# Altium footprint library ERJ-P08J220V.PcbLib: 3 footprints
Each footprint in its own frame and in the unit in brackets; x right, y up, seen from the top. Pads: shape width x height; smd on the part's side, far side on the other; paste and mask are expansions set on the pad; w line width, h text height; cw(c..) or ccw(c..) is an arc to the next point about the centre after c.
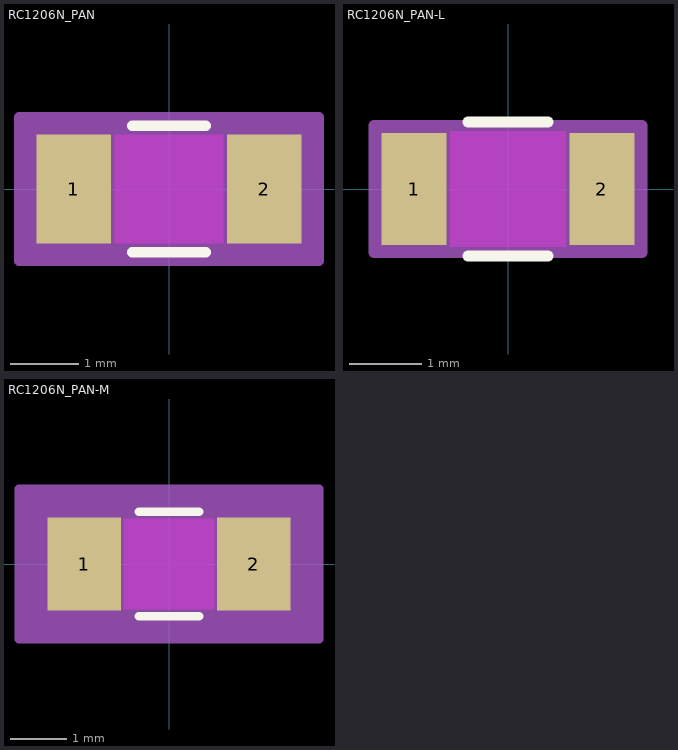
[diagram p0: the footprints below, top view; thin cyan lines are the x and y axes]

## RC1206N_PAN [mm]
pads (2):
  rect 1.1x1.6 smd paste+0 mask+0: 1(-1.4,0) 2(1.4,0)
Top Layer keep-out:
  region: -0.799,-0.749 -0.799,0.749 0.799,0.749 0.799,-0.749
Top Overlay:
  lines w0.152: -0.542,-0.927 0.542,-0.927 ; -0.542,0.927 0.542,0.927
  text ".Designator" at -3.492,-0.635 h1.27
Keep-Out Layer:
  region: -0.799,-0.8 -0.799,0.8 0.799,0.8 0.799,-0.8
Mechanical 13:
  lines w0.025: -1.6,-0.8 -1.6,0.8 ; -1.6,-0.8 -0.85,-0.8 -0.85,0.8 -1.6,0.8 ; -1.6,-0.8 1.6,-0.8 ; -1.6,-0.8 -1.6,0.8 ; -1.6,0.8 1.6,0.8 ; 1.6,-0.8 0.85,-0.8 0.85,0.8 1.6,0.8 ; 1.6,-0.8 1.6,0.8 ; 1.6,-0.8 1.6,0.8
  text ".Designator" at -3.492,-0.635 h1.27
Mechanical 15:
  region: 2.204,-1.054 -2.204,-1.054 -2.204,1.054 2.204,1.054
  lines w0.152: -2.204,-1.054 -2.204,1.054 2.204,1.054 2.204,-1.054 -2.204,-1.054
3D body "RC1206N_PAN.step": height 0.71, standoff 0, extent -1.6,-0.8 1.6,0.8

## RC1206N_PAN-L [mm]
pads (2):
  rect 0.9x1.55 smd paste+0 mask+0: 1(-1.3,0) 2(1.3,0)
Top Layer keep-out:
  region: -0.799,-0.749 -0.799,0.749 0.799,0.749 0.799,-0.749
Top Overlay:
  lines w0.152: -0.554,-0.927 0.554,-0.927 ; -0.554,0.927 0.554,0.927
  text ".Designator" at -3.492,-0.635 h1.27
Keep-Out Layer:
  region: -0.799,-0.8 -0.799,0.8 0.799,0.8 0.799,-0.8
Mechanical 13:
  lines w0.025: -1.6,-0.8 -1.6,0.8 ; -1.6,-0.8 -0.85,-0.8 -0.85,0.8 -1.6,0.8 ; -1.6,-0.8 1.6,-0.8 ; -1.6,-0.8 -1.6,0.8 ; -1.6,0.8 1.6,0.8 ; 1.6,-0.8 0.85,-0.8 0.85,0.8 1.6,0.8 ; 1.6,-0.8 1.6,0.8 ; 1.6,-0.8 1.6,0.8
  text ".Designator" at -3.492,-0.635 h1.27
Mechanical 15:
  region: 1.852,-0.877 -1.852,-0.877 -1.852,0.877 1.852,0.877
  lines w0.152: -1.852,-0.877 -1.852,0.877 1.852,0.877 1.852,-0.877 -1.852,-0.877
3D body "RC1206N_PAN.step": height 0.71, standoff 0, extent -1.6,-0.8 1.6,0.8

## RC1206N_PAN-M [mm]
pads (2):
  rect 1.3x1.65 smd paste+0 mask+0: 1(-1.5,0) 2(1.5,0)
Top Layer keep-out:
  region: -0.799,-0.749 -0.799,0.749 0.799,0.749 0.799,-0.749
Top Overlay:
  lines w0.152: -0.533,-0.927 0.533,-0.927 ; -0.533,0.927 0.533,0.927
  text ".Designator" at -3.492,-0.635 h1.27
Keep-Out Layer:
  region: -0.799,-0.8 -0.799,0.8 0.799,0.8 0.799,-0.8
Mechanical 13:
  lines w0.025: -1.6,-0.8 -1.6,0.8 ; -1.6,-0.8 -0.85,-0.8 -0.85,0.8 -1.6,0.8 ; -1.6,-0.8 1.6,-0.8 ; -1.6,-0.8 -1.6,0.8 ; -1.6,0.8 1.6,0.8 ; 1.6,-0.8 0.85,-0.8 0.85,0.8 1.6,0.8 ; 1.6,-0.8 1.6,0.8 ; 1.6,-0.8 1.6,0.8
  text ".Designator" at -3.492,-0.635 h1.27
Mechanical 15:
  region: 2.658,-1.333 -2.658,-1.333 -2.658,1.333 2.658,1.333
  lines w0.152: -2.658,-1.333 -2.658,1.333 2.658,1.333 2.658,-1.333 -2.658,-1.333
3D body "RC1206N_PAN.step": height 0.71, standoff 0, extent -1.6,-0.8 1.6,0.8